# Altium schematic symbol library UNO_R3.SchLib: 1 symbol
Pins are listed as number, name and electrical type; pins without a type are passive.

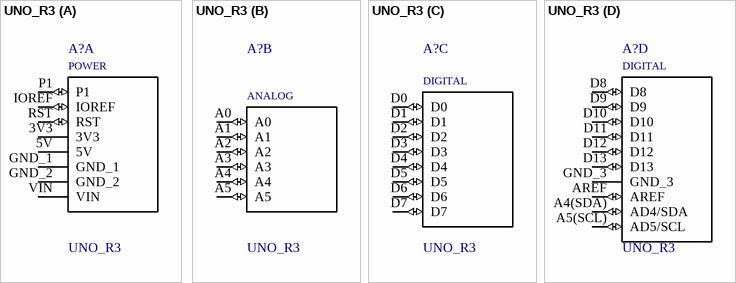
[diagram p0: symbol UNO_R3]

## UNO_R3
designator A?
Arduino Uno R3 _Atmega328 - assembled_; MP: UNO R3; Availability: Unavailable; Package: None; SnapEDA_Link: https://www.snapeda.com/parts/UNO%20R3/Arduino/view-part/?ref=snap; MF: Arduino; Price: None; Value: *
footprint *ARDUINO_UNO_R3_UNO_R3(Primary); pin to pad A4(SDA)>A4(SDA A5(SCL)>A5(SCL
part A pins: 3V3 (power), 5V (power), GND_1 (power), GND_2 (power), IOREF (io), P1 (io), RST (io), VIN (power)
part B pins: A0 (io), A1 (io), A2 (io), A3 (io), A4 (io), A5 (io)
part C pins: D0 (io), D1 (io), D2 (io), D3 (io), D4 (io), D5 (io), D6 (io), D7 (io)
part D pins: A4(SDA) AD4/SDA (io), A5(SCL) AD5/SCL (io), AREF (io), D8 (io), D9 (io), D10 (io), D11 (io), D12 (io), D13 (io), GND_3 (power)
part A text: POWER
part B text: ANALOG
part C text: DIGITAL
part D text: DIGITAL